# EAGLE library part NRF24L01+ (library maxorig)
NRF24L01 - Low cost 2.4GHZ ISM radio Extensive Arduino support and mesh networking support. Flush package has holes to allow for entire module to sit flush to PCB if header spacers removed due to through-hole crystal used. Short version has keepout area for trace antenna onboard to avoid signal dampening. Long version's anchor pins are tied to GND but are not required for operation. Techinical specifications: VCC: 1.9-3.6V 5V tolerant inputs 126 channels 2Mbps max data rate
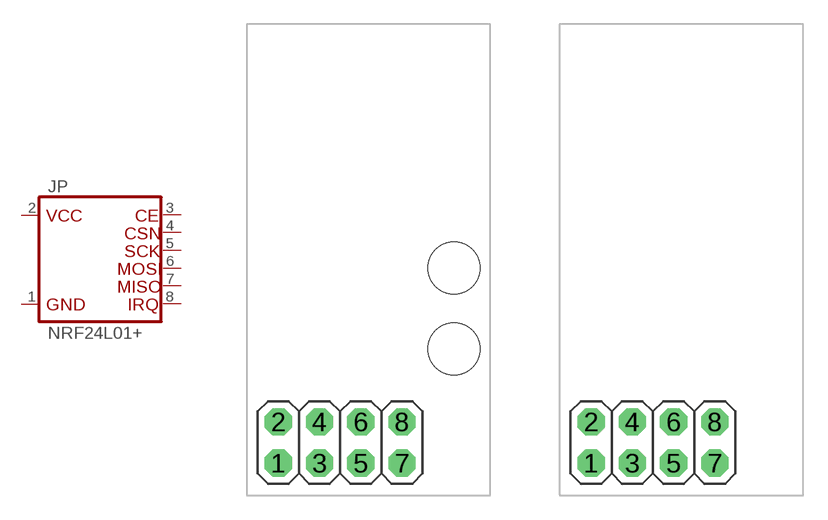
[diagram p11: symbol with the pads of NRF24L01SHORT; footprints NRF24L01SHORT, NRF24L01SHORTNOHOLES]

Designator prefix JP

## NRF24L01+SHORT_FLUSH  [NRF24L01SHORT]
1  GND  pas
2  VCC  pas
3  CE  pas
4  CSN  pas
5  SCK  pas
6  MOSI  pas
7  MISO  pas
8  IRQ  pas

## NRF24L01+SHORT  [NRF24L01SHORTNOHOLES]
Pads as for NRF24L01SHORT

## NRF24L01+LONG  [NRF24L01LONG]
1  GND  pas
2  VCC  pas
3  CE  pas
4  CSN  pas
5  SCK  pas
6  MOSI  pas
7  MISO  pas
8  IRQ  pas
9  GND  pas
10  GND  pas

## NRF24L01+LONGNOANCHORS  [NRF24L01LONGNOANCHORS]
Pads as for NRF24L01SHORT

## Footprint NRF24L01SHORT (pad centres in mm)
PIN HEADER
drill 1.016 pad 1.676 octagon: 1 -3.81,-1.27; 2 -3.81,1.27; 3 -1.27,-1.27; 4 -1.27,1.27; 5 1.27,-1.27; 6 1.27,1.27; 7 3.81,-1.27; 8 3.81,1.27
hole 3.2 at 7,5.75
hole 3.2 at 7,10.75

## Footprint NRF24L01SHORTNOHOLES (pad centres in mm)
PIN HEADER
drill 1.016 pad 1.676 octagon: 1 -3.81,-1.27; 2 -3.81,1.27; 3 -1.27,-1.27; 4 -1.27,1.27; 5 1.27,-1.27; 6 1.27,1.27; 7 3.81,-1.27; 8 3.81,1.27

## Footprint NRF24L01LONG (pad centres in mm)
PIN HEADER
drill 1.016 pad 1.676 octagon: 1 -3.81,-1.27; 2 -3.81,1.27; 3 -1.27,-1.27; 4 -1.27,1.27; 5 1.27,-1.27; 6 1.27,1.27; 7 3.81,-1.27; 8 3.81,1.27; 9 7.05,36.1; 10 -7.05,36.1

## Footprint NRF24L01LONGNOANCHORS (pad centres in mm)
PIN HEADER
drill 1.016 pad 1.676 octagon: 1 -3.81,-1.27; 2 -3.81,1.27; 3 -1.27,-1.27; 4 -1.27,1.27; 5 1.27,-1.27; 6 1.27,1.27; 7 3.81,-1.27; 8 3.81,1.27